# Altium footprint library lebomb.PCBLIB: 10 footprints
Each footprint in its own frame and in the unit in brackets; x right, y up, seen from the top. Pads: shape width x height; smd on the part's side, far side on the other; paste and mask are expansions set on the pad; w line width, h text height; cw(c..) or ccw(c..) is an arc to the next point about the centre after c.
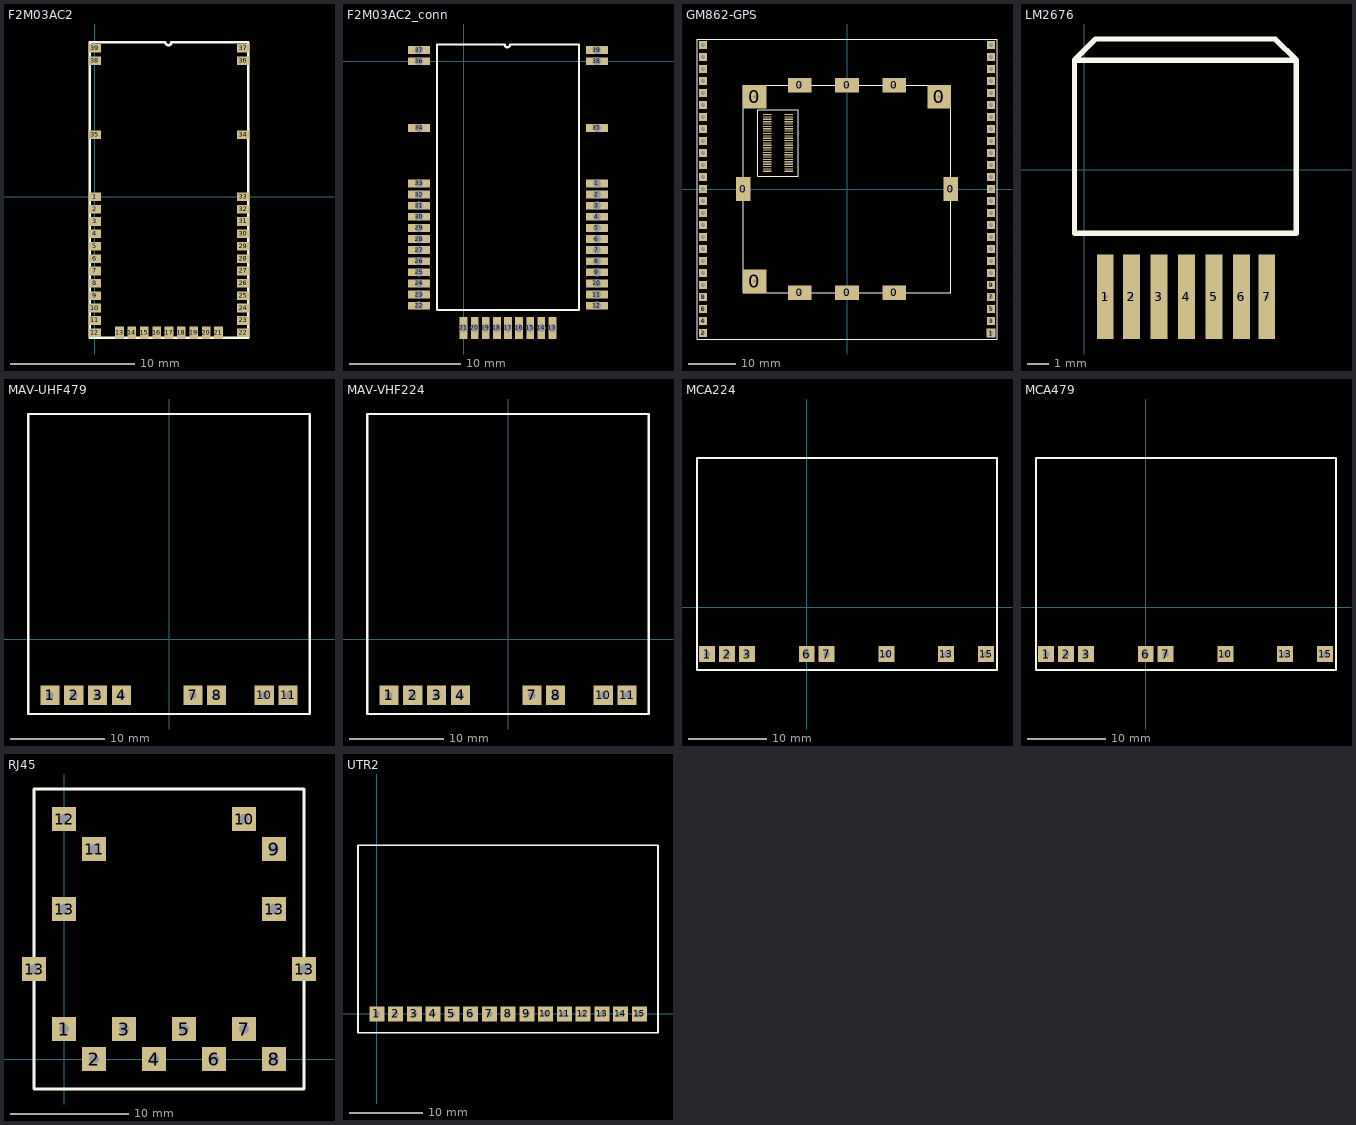
[diagram p0: the footprints below, top view; thin cyan lines are the x and y axes]

## F2M03AC2 [mm]
pads (39):
  rect 1x0.7 smd: 1(0,0) 2(0,-1) 3(0,-2) 4(0,-3) 5(0,-4) 6(0,-5) 7(0,-6) 8(0,-7) 9(0,-8) 10(0,-9) 11(0,-10) 12(0,-11) 22(12,-11) 23(12,-10) 24(12,-9) 25(12,-8) 26(12,-7) 27(12,-6) 28(12,-5) 29(12,-4) 30(12,-3) 31(12,-2) 32(12,-1) 33(12,0) 34(12,5) 35(0,5) 36(12,11) 37(12,12) 38(0,11) 39(0,12)
  rect 0.7x1 smd: 13(2,-11) 14(3,-11) 15(4,-11) 16(5,-11) 17(6,-11) 18(7,-11) 19(8,-11) 20(9,-11) 21(10,-11)
Top Overlay:
  lines w0.2: -0.4,-11.4 -0.4,12.5 5.7,12.5 ccw(c5.95,12.5) 6.2,12.5 12.4,12.5 12.4,-11.4 -0.4,-11.4

## F2M03AC2_conn [mm]
pads (39):
  rect 2x0.7 hole 0.711: 1(12,-11) 2(12,-12) 3(12,-13) 4(12,-14) 5(12,-15) 6(12,-16) 7(12,-17) 8(12,-18) 9(12,-19) 10(12,-20) 11(12,-21) 12(12,-22) 22(-4,-22) 23(-4,-21) 24(-4,-20) 25(-4,-19) 26(-4,-18) 27(-4,-17) 28(-4,-16) 29(-4,-15) 30(-4,-14) 31(-4,-13) 32(-4,-12) 33(-4,-11) 34(-4,-6) 35(12,-6) 36(-4,0) 37(-4,1) 38(12,0) 39(12,1)
  rect 0.7x2 hole 0.711: 13(8,-24) 14(7,-24) 15(6,-24) 16(5,-24) 17(4,-24) 18(3,-24) 19(2,-24) 20(1,-24) 21(0,-24)
Top Overlay:
  lines w0.2: -2.4,-22.4 -2.4,1.5 3.7,1.5 ccw(c3.95,1.5) 4.2,1.5 10.4,1.5 10.4,-22.4 -2.4,-22.4

## GM862-GPS [mm]
pads (111):
  rect 3x5 hole 0.762: 0(-21.95,0) 0(21.95,0)
  rect 5x5 hole 0.762: 0(-19.5,-19.5) 0(-19.5,19.5) 0(19.5,19.5)
  rect 5x3 hole 0.762: 0(-10,-21.95) 0(-10,21.95) 0(0,-21.95) 0(0,21.95) 0(10,-21.95) 0(10,21.95)
  rect 1.8x0.25 smd: 1(-12.35,3.75) 2(-16.85,3.75) 3(-12.35,4.25) 4(-16.85,4.25) 5(-12.35,4.75) 6(-16.85,4.75) 7(-12.35,5.25) 8(-16.85,5.25) 9(-12.35,5.75) 10(-16.85,5.75) 11(-12.35,6.25) 12(-16.85,6.25) 13(-12.35,6.75) 14(-16.85,6.75) 15(-12.35,7.25) 16(-16.85,7.25) 17(-12.35,7.75) 18(-16.85,7.75) 19(-12.35,8.25) 20(-16.85,8.25) 21(-12.35,8.75) 22(-16.85,8.75) 23(-12.35,9.25) 24(-16.85,9.25) 25(-12.35,9.75) 26(-16.85,9.75) 27(-12.35,10.25) 28(-16.85,10.25) 29(-12.35,10.75) 30(-16.85,10.75) 31(-12.35,11.25) 32(-16.85,11.25) 33(-12.35,11.75) 34(-16.85,11.75) 35(-12.35,12.25) 36(-16.85,12.25) 37(-12.35,12.75) 38(-16.85,12.75) 39(-12.35,13.25) 40(-16.85,13.25) 41(-12.35,13.75) 42(-16.85,13.75) 43(-12.35,14.25) 44(-16.85,14.25) 45(-12.35,14.75) 46(-16.85,14.75) 47(-12.35,15.25) 48(-16.85,15.25) 49(-12.35,15.75) 50(-16.85,15.75)
  rect 2x2 hole 0.762: 1(30.48,-30.48)
  rect 1.7x1.7 hole 0.762: 2(-30.48,-30.48) 3(30.48,-27.94) 4(-30.48,-27.94) 5(30.48,-25.4) 6(-30.48,-25.4) 7(30.48,-22.86) 8(-30.48,-22.86) 9(30.48,-20.32) 10(-30.48,-20.32) 11(30.48,-17.78) 12(-30.48,-17.78) 13(30.48,-15.24) 14(-30.48,-15.24) 15(30.48,-12.7) 16(-30.48,-12.7) 17(30.48,-10.16) 18(-30.48,-10.16) 19(30.48,-7.62) 20(-30.48,-7.62) 21(30.48,-5.08) 22(-30.48,-5.08) 23(30.48,-2.54) 24(-30.48,-2.54) 25(30.48,0) 26(-30.48,0) 27(30.48,2.54) 28(-30.48,2.54) 29(30.48,5.08) 30(-30.48,5.08) 31(30.48,7.62) 32(-30.48,7.62) 33(30.48,10.16) 34(-30.48,10.16) 35(30.48,12.7) 36(-30.48,12.7) 37(30.48,15.24) 38(-30.48,15.24) 39(30.48,17.78) 40(-30.48,17.78) 41(30.48,20.32) 42(-30.48,20.32) 43(30.48,22.86) 44(-30.48,22.86) 45(30.48,25.4) 46(-30.48,25.4) 47(30.48,27.94) 48(-30.48,27.94) 49(30.48,30.48) 50(-30.48,30.48)
Top Overlay:
  lines w0.254: -31.75,-31.75 31.75,-31.75 31.75,31.75 -31.75,31.75 -31.75,-31.75 ; -21.95,-21.95 21.95,-21.95 21.95,21.95 -21.95,21.95 -21.95,-21.95 ; -18.85,2.75 -18.85,16.75 -10.35,16.75 -10.35,2.75 -18.85,2.75

## LM2676 [mm]
pads (7):
  rect 0.8x4 on Top hole 0.2: 1(1,-6) 2(2.24,-6) 3(3.54,-6) 4(4.84,-6) 5(6.14,-6) 6(7.44,-6) 7(8.64,-6)
Top Overlay:
  lines w0.254: -0.46,5.2 10.04,5.2 ; -0.46,5.2 0.54,6.2 9.04,6.2 10.04,5.2 ; -0.46,5.2 -0.46,-3 10.04,-3 10.04,5.2

## MAV-UHF479 [mil]
pads (8):
  rect 80x80 hole 32: 1(-500,-236.22) 2(-400,-236.22) 3(-300,-236.22) 4(-200,-236.22) 7(100,-236.22) 8(200,-236.22) 10(400,-236.22) 11(500,-236.22)
Top Overlay:
  lines w10: -590.55,-314.96 590.55,-314.96 590.55,944.88 -590.55,944.88 -590.55,-314.96

## MAV-VHF224 [mil]
pads (8):
  rect 80x80 hole 32: 1(-500,-236.22) 2(-400,-236.22) 3(-300,-236.22) 4(-200,-236.22) 7(100,-236.22) 8(200,-236.22) 10(400,-236.22) 11(500,-236.22)
Top Overlay:
  lines w10: -590.55,-314.96 -590.55,944.88 590.55,944.88 590.55,-314.96 -590.55,-314.96

## MCA224 [mil]
pads (8):
  rect 80x80 hole 32: 1(-500,-236.22) 2(-400,-236.22) 3(-300,-236.22) 6(0,-236.22) 7(100,-236.22) 10(400,-236.22) 13(700,-236.22) 15(900,-236.22)
Top Overlay:
  lines w10: -551.18,-314.96 -551.18,748.03 955.12,748.03 955.12,-314.96 -551.18,-314.96

## MCA479 [mil]
pads (8):
  rect 80x80 hole 32: 1(-500,-236.22) 2(-400,-236.22) 3(-300,-236.22) 6(0,-236.22) 7(100,-236.22) 10(400,-236.22) 13(700,-236.22) 15(900,-236.22)
Top Overlay:
  lines w10: -551.18,-314.96 955.12,-314.96 955.12,748.03 -551.18,748.03 -551.18,-314.96

## RJ45 [mil]
pads (16):
  rect 80x80 hole 32: 1(0,100) 2(100,0) 3(200,100) 4(300,0) 5(400,100) 6(500,0) 7(600,100) 8(700,0) 9(700,700) 10(600,800) 11(100,700) 12(0,800) 13(-100,300) 13(0,500) 13(700,500) 13(800,300)
Top Overlay:
  lines w10: -100,-100 800,-100 800,900 -100,900 -100,-100

## UTR2 [mil]
pads (15):
  rect 80x80 hole 32: 1(0,0) 2(100,0) 3(200,0) 4(300,0) 5(400,0) 6(500,0) 7(600,0) 8(700,0) 9(800,0) 10(900,0) 11(1000,0) 12(1100,0) 13(1200,0) 14(1300,0) 15(1400,0)
Top Overlay:
  lines w10: -100,-100 1500,-100 1500,900 -100,900 -100,-100